# Altium footprint library JUMPER_TEST.PcbLib: 47 footprints (part 2 of 3)
Each footprint in its own frame and in the unit in brackets; x right, y up, seen from the top. Pads: shape width x height; smd on the part's side, far side on the other; paste and mask are expansions set on the pad; w line width, h text height; cw(c..) or ccw(c..) is an arc to the next point about the centre after c.
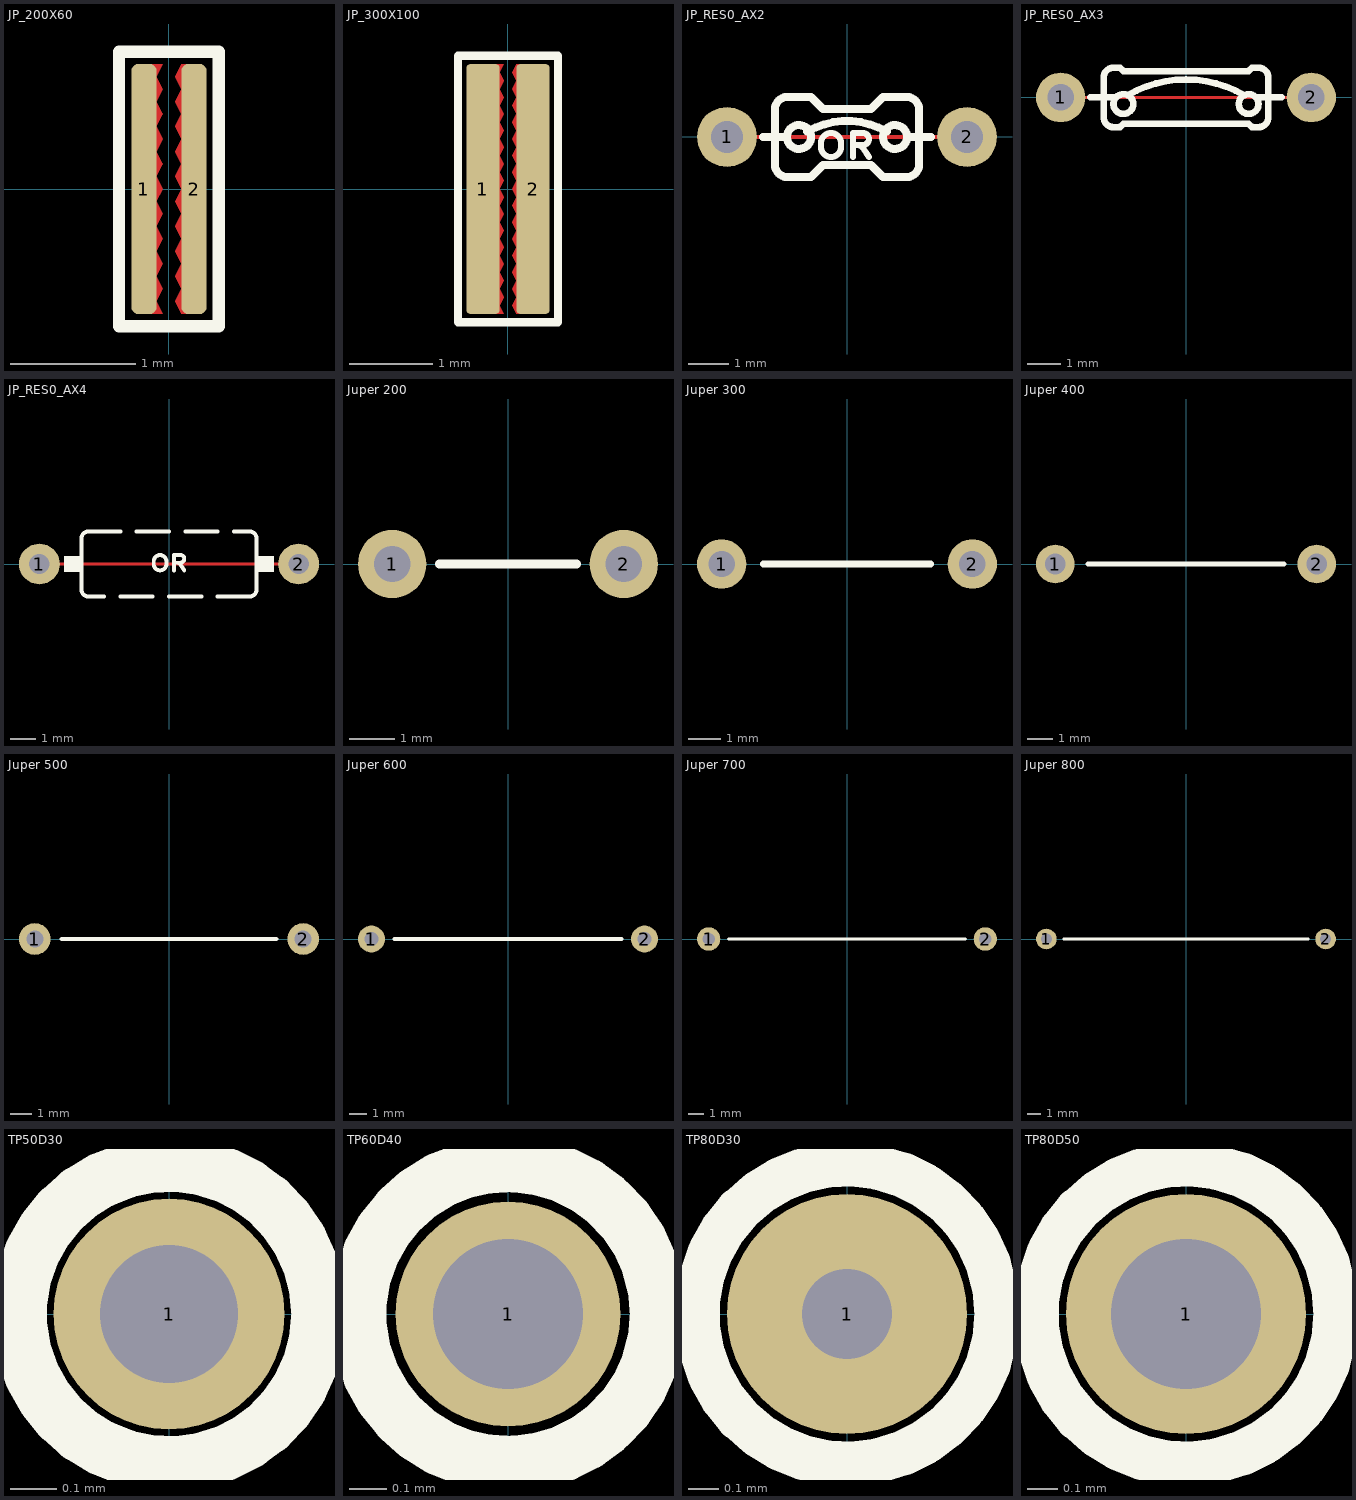
[diagram p1: the footprints below, top view; thin cyan lines are the x and y axes]

## JP_200X60 [mm] "JUMPER SOLDER 2X0.6MM"
height 0.6
pads (2):
  rrect50% 0.2x2 smd paste-3 mask+0.05: 1(-0.2,0) 2(0.2,0)
Top Layer:
  region: -0.05,-0.8 -0.15,-0.8 -0.15,-1 -0.05,-1 -0.1,-0.9
  region: 0.1,-0.8 0.15,-0.8 0.15,-1 0.1,-1 0.05,-0.9
  region: 0.1,-0.6 0.15,-0.6 0.15,-0.8 0.1,-0.8 0.05,-0.7
  region: -0.05,-0.6 -0.15,-0.6 -0.15,-0.8 -0.05,-0.8 -0.1,-0.7
  region: -0.05,-0.2 -0.15,-0.2 -0.15,-0.4 -0.05,-0.4 -0.1,-0.3
  region: 0.1,-0.2 0.15,-0.2 0.15,-0.4 0.1,-0.4 0.05,-0.3
  region: 0.1,-0.4 0.15,-0.4 0.15,-0.6 0.1,-0.6 0.05,-0.5
  region: -0.05,-0.4 -0.15,-0.4 -0.15,-0.6 -0.05,-0.6 -0.1,-0.5
  region: -0.05,0.2 -0.15,0.2 -0.15,0 -0.05,0 -0.1,0.1
  region: 0.1,0.2 0.15,0.2 0.15,0 0.1,0 0.05,0.1
  region: 0.1,0 0.15,0 0.15,-0.2 0.1,-0.2 0.05,-0.1
  region: -0.05,0 -0.15,0 -0.15,-0.2 -0.05,-0.2 -0.1,-0.1
  region: -0.05,0.6 -0.15,0.6 -0.15,0.4 -0.05,0.4 -0.1,0.5
  region: 0.1,0.6 0.15,0.6 0.15,0.4 0.1,0.4 0.05,0.5
  region: 0.1,0.4 0.15,0.4 0.15,0.2 0.1,0.2 0.05,0.3
  region: -0.05,0.4 -0.15,0.4 -0.15,0.2 -0.05,0.2 -0.1,0.3
  region: -0.05,0.8 -0.15,0.8 -0.15,0.6 -0.05,0.6 -0.1,0.7
  region: 0.1,0.8 0.15,0.8 0.15,0.6 0.1,0.6 0.05,0.7
  region: 0.1,1 0.15,1 0.15,0.8 0.1,0.8 0.05,0.9
  region: -0.05,1 -0.15,1 -0.15,0.8 -0.05,0.8 -0.1,0.9
Top Overlay:
  lines w0.1: -0.4,-1.1 0.4,-1.1 0.4,1.1 -0.4,1.1 -0.4,-1.1
Top Solder:
  region: -0.3,-1 -0.3,1 0.3,1 0.3,-1

## JP_300X100 [mm] "JUMPER SOLDER 3X1MM"
height 0.6
pads (2):
  rrect25% 0.4x3 smd paste-3 mask+0.05: 1(-0.3,0) 2(0.3,0)
Top Layer:
  region: -0.05,1.5 -0.15,1.5 -0.15,1.3 -0.05,1.3 -0.1,1.4
  region: 0.1,1.5 0.15,1.5 0.15,1.3 0.1,1.3 0.05,1.4
  region: 0.1,1.3 0.15,1.3 0.15,1.1 0.1,1.1 0.05,1.2
  region: -0.05,1.3 -0.15,1.3 -0.15,1.1 -0.05,1.1 -0.1,1.2
  region: -0.05,1.1 -0.15,1.1 -0.15,0.9 -0.05,0.9 -0.1,1
  region: 0.1,1.1 0.15,1.1 0.15,0.9 0.1,0.9 0.05,1
  region: -0.05,0.9 -0.15,0.9 -0.15,0.7 -0.05,0.7 -0.1,0.8
  region: 0.1,0.9 0.15,0.9 0.15,0.7 0.1,0.7 0.05,0.8
  region: -0.05,0.7 -0.15,0.7 -0.15,0.5 -0.05,0.5 -0.1,0.6
  region: 0.1,0.7 0.15,0.7 0.15,0.5 0.1,0.5 0.05,0.6
  region: 0.1,-0.3 0.15,-0.3 0.15,-0.5 0.1,-0.5 0.05,-0.4
  region: -0.05,-0.3 -0.15,-0.3 -0.15,-0.5 -0.05,-0.5 -0.1,-0.4
  region: 0.1,-0.1 0.15,-0.1 0.15,-0.3 0.1,-0.3 0.05,-0.2
  region: -0.05,-0.1 -0.15,-0.1 -0.15,-0.3 -0.05,-0.3 -0.1,-0.2
  region: 0.1,0.1 0.15,0.1 0.15,-0.1 0.1,-0.1 0.05,0
  region: -0.05,0.1 -0.15,0.1 -0.15,-0.1 -0.05,-0.1 -0.1,0
  region: -0.05,0.3 -0.15,0.3 -0.15,0.1 -0.05,0.1 -0.1,0.2
  region: 0.1,0.3 0.15,0.3 0.15,0.1 0.1,0.1 0.05,0.2
  region: 0.1,0.5 0.15,0.5 0.15,0.3 0.1,0.3 0.05,0.4
  region: -0.05,0.5 -0.15,0.5 -0.15,0.3 -0.05,0.3 -0.1,0.4
  region: 0.1,-1.3 0.15,-1.3 0.15,-1.5 0.1,-1.5 0.05,-1.4
  region: -0.05,-1.3 -0.15,-1.3 -0.15,-1.5 -0.05,-1.5 -0.1,-1.4
  region: 0.1,-1.1 0.15,-1.1 0.15,-1.3 0.1,-1.3 0.05,-1.2
  region: -0.05,-1.1 -0.15,-1.1 -0.15,-1.3 -0.05,-1.3 -0.1,-1.2
  region: 0.1,-0.9 0.15,-0.9 0.15,-1.1 0.1,-1.1 0.05,-1
  region: -0.05,-0.9 -0.15,-0.9 -0.15,-1.1 -0.05,-1.1 -0.1,-1
  region: -0.05,-0.7 -0.15,-0.7 -0.15,-0.9 -0.05,-0.9 -0.1,-0.8
  region: 0.1,-0.7 0.15,-0.7 0.15,-0.9 0.1,-0.9 0.05,-0.8
  region: 0.1,-0.5 0.15,-0.5 0.15,-0.7 0.1,-0.7 0.05,-0.6
  region: -0.05,-0.5 -0.15,-0.5 -0.15,-0.7 -0.05,-0.7 -0.1,-0.6
Top Overlay:
  lines w0.1: -0.6,-1.6 -0.6,1.6 0.6,1.6 0.6,-1.6 -0.6,-1.6
Top Solder:
  region: -0.25,-1.55 -0.25,1.55 0.25,1.55 0.25,-1.55

## JP_RES0_AX2 [mm] "JUMPER, RESISTOR 0 Ohm 1/8Watt, Axial 0.24Inch"
pads (2):
  round 1.5 hole 0.8: 1(-3,0) 2(3,0)
Top Layer:
  lines w0.1: -3,0 3,0
Top Overlay:
  circle w0.2: c1.2,0 r0.3
  circle w0.2: c-1.2,0 r0.3
  lines w0.15: 0.15,-0.5 0.15,0.1 0.4,0.1 cw(c0.4,-0.05) 0.55,-0.05 cw(c0.4,-0.05) 0.4,-0.2 0.15,-0.2 ; 0.25,-0.2 cw(c0.25,-0.4) 0.391,-0.259 0.55,-0.5 ; -0.65,-0.25 ccw(c-0.4,-0.25) -0.4,-0.5 ccw(c-0.4,-0.25) -0.15,-0.25 -0.15,-0.15 ccw(c-0.4,-0.15) -0.4,0.1 ccw(c-0.4,-0.15) -0.65,-0.15 -0.65,-0.25
  lines w0.2: -2.1,0 -1.5,0 ; -1,0.132 cw(c0,-1.6) 1,0.132 ; 1.5,0 2.1,0 ; -1.8,-0.7 ccw(c-1.5,-0.7) -1.5,-1 -0.9,-1 -0.6,-0.7 0.6,-0.7 0.9,-1 1.5,-1 ccw(c1.5,-0.7) 1.8,-0.7 1.8,0.7 ccw(c1.5,0.7) 1.5,1 0.9,1 0.6,0.7 -0.6,0.7 -0.9,1 -1.5,1 ccw(c-1.5,0.7) -1.8,0.7 -1.8,-0.7
3D body "User Library-Res_1-8w_1_0.step": height 1.9, standoff -2, extent -3.2,-0.9 3.2,0.9

## JP_RES0_AX3 [mm] "JUMPER, RESISTOR 0 Ohm 1/8Watt, Axial0.3Inch"
pads (2):
  round 1.5 hole 0.8: 1(-3.8,0) 2(3.8,0)
Top Layer:
  lines w0.1: -3.8,0 3.8,0
Top Overlay:
  circle w0.2: c1.9,-0.2 r0.3
  circle w0.2: c-1.9,-0.2 r0.3
  lines w0.2: -2.9,0 -2.1,0 ; -1.776,0.06 cw(c0,-2.956) 1.776,0.06 ; 2.1,0 2.9,0 ; -2.5,-0.6 ccw(c-2.2,-0.6) -2.2,-0.9 -2,-0.9 -1.9,-0.8 1.9,-0.8 2,-0.9 2.2,-0.9 ccw(c2.2,-0.6) 2.5,-0.6 2.5,0.6 ccw(c2.2,0.6) 2.2,0.9 2,0.9 1.9,0.8 -1.9,0.8 -2,0.9 -2.2,0.9 ccw(c-2.2,0.6) -2.5,0.6 -2.5,-0.6
3D body "Resistor Zero.STEP": height 2.5, standoff -2.3, extent -4.21,-1.2 4.21,1.2

## JP_RES0_AX4 [mil] "0 Ohm Jumper Resistor"
pads (2):
  round 63 hole 31.5: 1(-200,0) 2(200,0)
Top Layer:
  lines w3.94: -200,0 200,0
Top Overlay:
  rectangle: -162,-12 -135,12
  rectangle: 135,-12 162,12
  lines w5.91: 7.87,-9.84 7.87,13.78 17.72,13.78 cw(c17.72,7.87) 23.62,7.87 cw(c17.72,7.87) 17.72,1.97 7.87,1.97 ; 11.81,1.97 cw(c11.81,-5.91) 17.38,-0.34 23.62,-9.84 ; -23.62,0 ccw(c-13.78,0) -13.78,-9.84 ccw(c-13.78,0) -3.94,0 -3.94,3.94 ccw(c-13.78,3.94) -13.78,13.78 ccw(c-13.78,3.94) -23.62,3.94 -23.62,0
  lines w6: -100,-50 -125,-50 cw(c-125,-40) -135,-40 -135,40 cw(c-125,40) -125,50 -75,50 ; -75,-50 -25,-50 ; -50,50 0,50 ; 0,-50 50,-50 ; 25,50 75,50 ; 75,-50 125,-50 ccw(c125,-40) 135,-40 135,40 ccw(c125,40) 125,50 100,50
3D body "SW3dPS-AXIAL_RESISTOR(0.25W).STEP": height 102.36, standoff -59.06, extent -215.74,-47.24 215.75,47.25

## Juper 200 [mm]
pads (2):
  round 1.5 hole 0.8: 1(-2.54,0) 2(2.54,0)
Top Overlay:
  lines w0.2: -1.5,0 1.5,0
3D body "Jp 200.STEP": height 0.6, standoff -2, extent -2.84,-0.3 2.84,0.3

## Juper 300 [mm]
pads (2):
  round 1.5 hole 0.8: 1(-3.81,0) 2(3.81,0)
Top Overlay:
  lines w0.2: -2.54,0 2.54,0
3D body "Jp 300.STEP": height 0.6, standoff -2, extent -4.11,-0.3 4.11,0.3

## Juper 400 [mm]
pads (2):
  round 1.5 hole 0.8: 1(-5.08,0) 2(5.08,0)
Top Overlay:
  lines w0.2: -3.81,0 3.81,0
3D body "Jp 400.STEP": height 0.6, standoff -2, extent -5.38,-0.3 5.38,0.3

## Juper 500 [mm]
pads (2):
  round 1.5 hole 0.8: 1(-6.35,0) 2(6.35,0)
Top Overlay:
  lines w0.2: -5.08,0 5.08,0
3D body "Jp 500.STEP": height 0.6, standoff -2, extent -6.65,-0.3 6.65,0.3

## Juper 600 [mm]
pads (2):
  round 1.5 hole 0.8: 1(-7.62,0) 2(7.62,0)
Top Overlay:
  lines w0.2: -6.35,0 6.35,0
3D body "Jp 600.STEP": height 0.6, standoff -2, extent -7.92,-0.3 7.92,0.3

## Juper 700 [mm]
pads (2):
  round 1.5 hole 0.8: 1(-8.89,0) 2(8.89,0)
Top Overlay:
  lines w0.2: -7.62,0 7.62,0
3D body "Jp 700.STEP": height 0.6, standoff -2, extent -9.19,-0.3 9.19,0.3

## Juper 800 [mm]
pads (2):
  round 1.5 hole 0.8: 1(-10.16,0) 2(10.16,0)
Top Overlay:
  lines w0.2: -8.89,0 8.89,0
3D body "Jp 800.STEP": height 0.6, standoff -2, extent -10.46,-0.3 10.46,0.3

## TP50D30 [mm] "TEST POINT 0.5mm WITH 0.3 mm Hole Diameter"
height 7.62
pads (1):
  round 0.5 hole 0.3 mask+0.025: 1(0,0)
Top Overlay:
  circle w0.12: c0,0 r0.325

## TP60D40 [mm] "TEST POINT 0.6mm WITH 0.4 mm Hole Diameter"
pads (1):
  round 0.6 hole 0.4 mask+0.025: 1(0,0)
Top Overlay:
  circle w0.15: c0,0 r0.4

## TP80D30 [mm] "TEST POINT 0.8mm WITH 0.3 mm Hole Diameter"
pads (1):
  round 0.8 / inner round 0.5 / far side round 0.5 hole 0.3 mask+0.025: 1(0,0)
Top Overlay:
  circle w0.15: c0,0 r0.5

## TP80D50 [mm]
pads (1):
  round 0.8 hole 0.5 mask+0.025: 1(0,0)
Top Overlay:
  circle w0.15: c0,0 r0.5